# Altium schematic symbol library lib.SchLib: 12 symbols
Pins are listed as number, name and electrical type; pins without a type are passive.

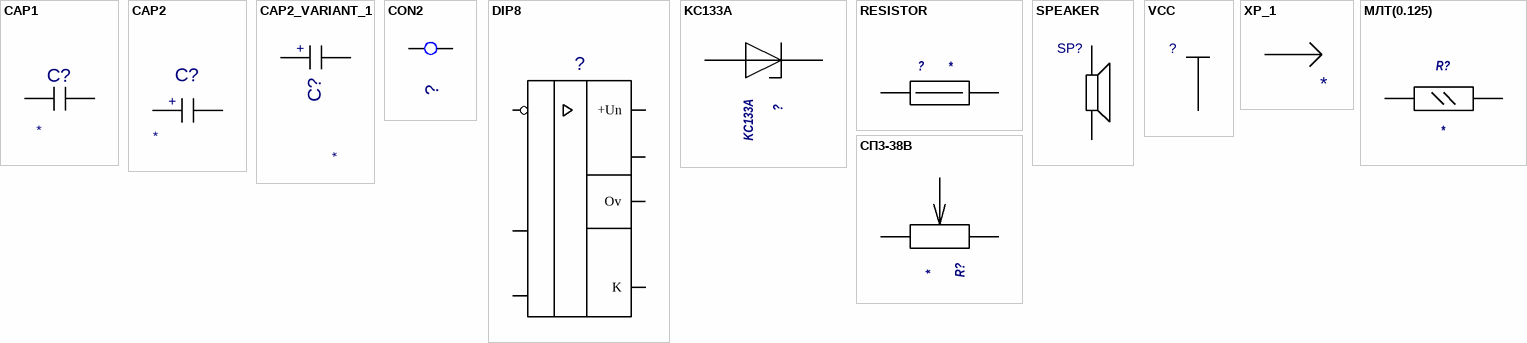
[diagram p0: symbols CAP1 to СП3-38В]

## CAP1
designator C?  (value not drawn)
Value: *
footprint CAP1
pins: 1, 2

## CAP2
designator C?  (value not drawn)
Value: *
footprint CAP2
pins: 1, 2
text: +

## CAP2_VARIANT_1
designator C?, comment CAP2  (value not drawn)
CAP2_VARIANT_1; Value: *
footprint CAP2
pins: 1, 2
text: +

## CON2
designator ?  (value not drawn)
Value: *
footprint 2PAD
pins: 1 A1, 2 A2

## DIP8
designator ?  (value not drawn)
Value: *
footprint DIP8
pins: 1 IN1, 2 IN2, 3 IN2, 4 +Un, 5, 6 Ov, 7 K, PWR GND hidden

## KC133A
designator ?
Value: *
footprint KC133A
pins: 1, 2

## RESISTOR
designator ?  (value not drawn)
Value: *
footprint МЛТ(0.5)
pins: 1, 2

## SPEAKER
designator SP?  (value not drawn)
Value: *
footprint CAP1
pins: 1, 2

## VCC
designator ?  (value not drawn)
Value: *
footprint 1PAD
pins: 1 (power)

## XP_1
designator ?  (value not drawn)
Value: *
footprint 1PAD
pins: 1 A1

## МЛТ(0.125)
designator R?  (value not drawn)
Value: *
footprint МЛТ(0.125)
pins: 1, 2

## СП3-38В
designator R?  (value not drawn)
Value: *
footprint СП3-38В
pins: 1, 2, 3